# Altium schematic symbol library CSD16556Q5B.SchLib: 2 symbols
Pins are listed as number, name and electrical type; pins without a type are passive.

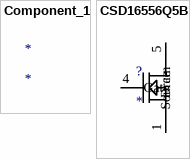
[diagram p0: symbols Component_1 to CSD16556Q5B]

## Component_1
designator *

## CSD16556Q5B
designator ?
No Description Available; Mfr_Name: Texas Instruments; RefDes: RefDes; Type: TYPE
footprint DNK0008A
pins: 1 Source, 2 Source, 3 Source, 4 Gate, 5 Drain, 6 Drain, 7 Drain, 8 Drain, 9 Drain